# Altium footprint library PcbLib1.PcbLib: 3 footprints
Each footprint in its own frame and in the unit in brackets; x right, y up, seen from the top. Pads: shape width x height; smd on the part's side, far side on the other; paste and mask are expansions set on the pad; w line width, h text height; cw(c..) or ccw(c..) is an arc to the next point about the centre after c.
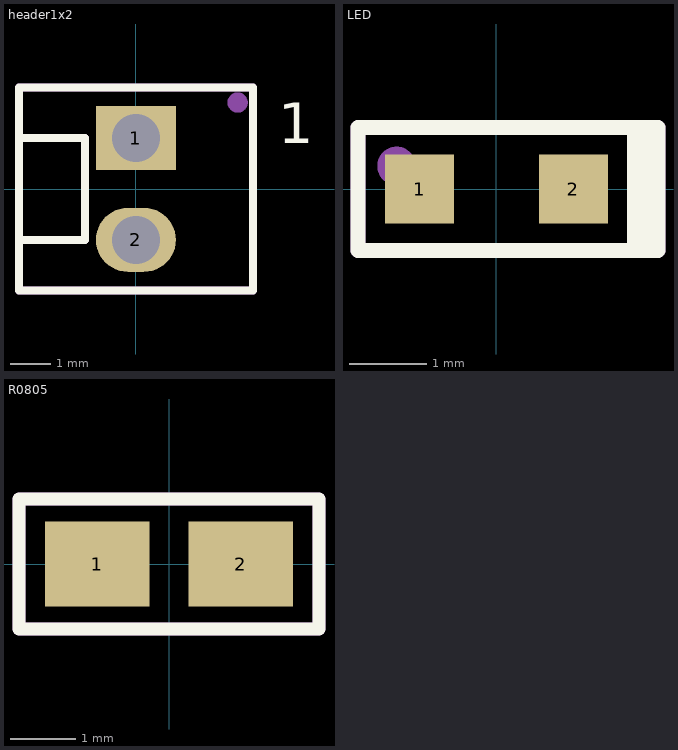
[diagram p0: the footprints below, top view; thin cyan lines are the x and y axes]

## header1x2 [mm]
pads (2):
  rect 2x1.6 hole 1.2: 1(0,1.27)
  oval 2x1.6 hole 1.2: 2(0,-1.27)
Top Overlay:
  lines w0.2: -2.921,-1.27 -1.27,-1.27 -1.27,1.27 -2.921,1.27 ; -2.921,-2.54 -2.921,2.54 2.921,2.54 2.921,-2.54 -2.921,-2.54
  text "1" at 3.556,1.143 h1.02
Mechanicals 29:
  circle w0.254: c2.54,2.159 r0.127
  lines w0.2: -2.921,-1.27 -1.27,-1.27 -1.27,1.27 -2.921,1.27 ; -2.921,-2.54 -2.921,2.54 2.921,2.54 2.921,-2.54 -2.921,-2.54
  text "'.Designator'" at -2.794,3.006 h1.02
3D body "User Library-Molex - 2-Pin Header with Lock (0_100in pitch).STEP": height 10.68, standoff -3.54, extent -3.175,-2.54 3.175,2.54

## LED [mm]
pads (2):
  rect 0.9x0.9 smd: 1(-1,0) 2(1,0)
Top Overlay:
  rectangle: 1.7,-0.8 2.1,0.8
  lines w0.2: -1.8,-0.8 -1.8,0.8 2.1,0.8 2.1,-0.8 -1.8,-0.8
Mechanicals 29:
  circle w0.3: c-1.3,0.3 r0.1
  rectangle: 1.7,-0.8 2.1,0.8
  lines w0.2: -1.8,-0.8 -1.8,0.8 2.1,0.8 2.1,-0.8 -1.8,-0.8
  text "'.Designator'" at -0.8,-0.367 h0.7
3D body "ALSRobot-LED0603(G).step": height 0.6, standoff 0, extent -0.81,-0.4 0.81,0.4

## R0805 [mm]
pads (2):
  rect 1.6x1.3 smd: 1(-1.1,0) 2(1.1,0)
Top Overlay:
  lines w0.2: -2.3,-1 -2.3,1 2.3,1 2.3,-1 -2.3,-1
Mechanicals 29:
  lines w0.2: -2.3,-1 -2.3,1 2.3,1 2.3,-1 -2.3,-1
  text "'.Designator'" at -2.2,1.333 h0.7
3D body "CRCW08052M74FKTC--3DModel-STEP-46669.STEP": height 0.5, standoff 0, extent -1,-0.625 1,0.625